# Altium footprint library BMS.PcbLib: 11 footprints
Each footprint in its own frame and in the unit in brackets; x right, y up, seen from the top. Pads: shape width x height; smd on the part's side, far side on the other; paste and mask are expansions set on the pad; w line width, h text height; cw(c..) or ccw(c..) is an arc to the next point about the centre after c.
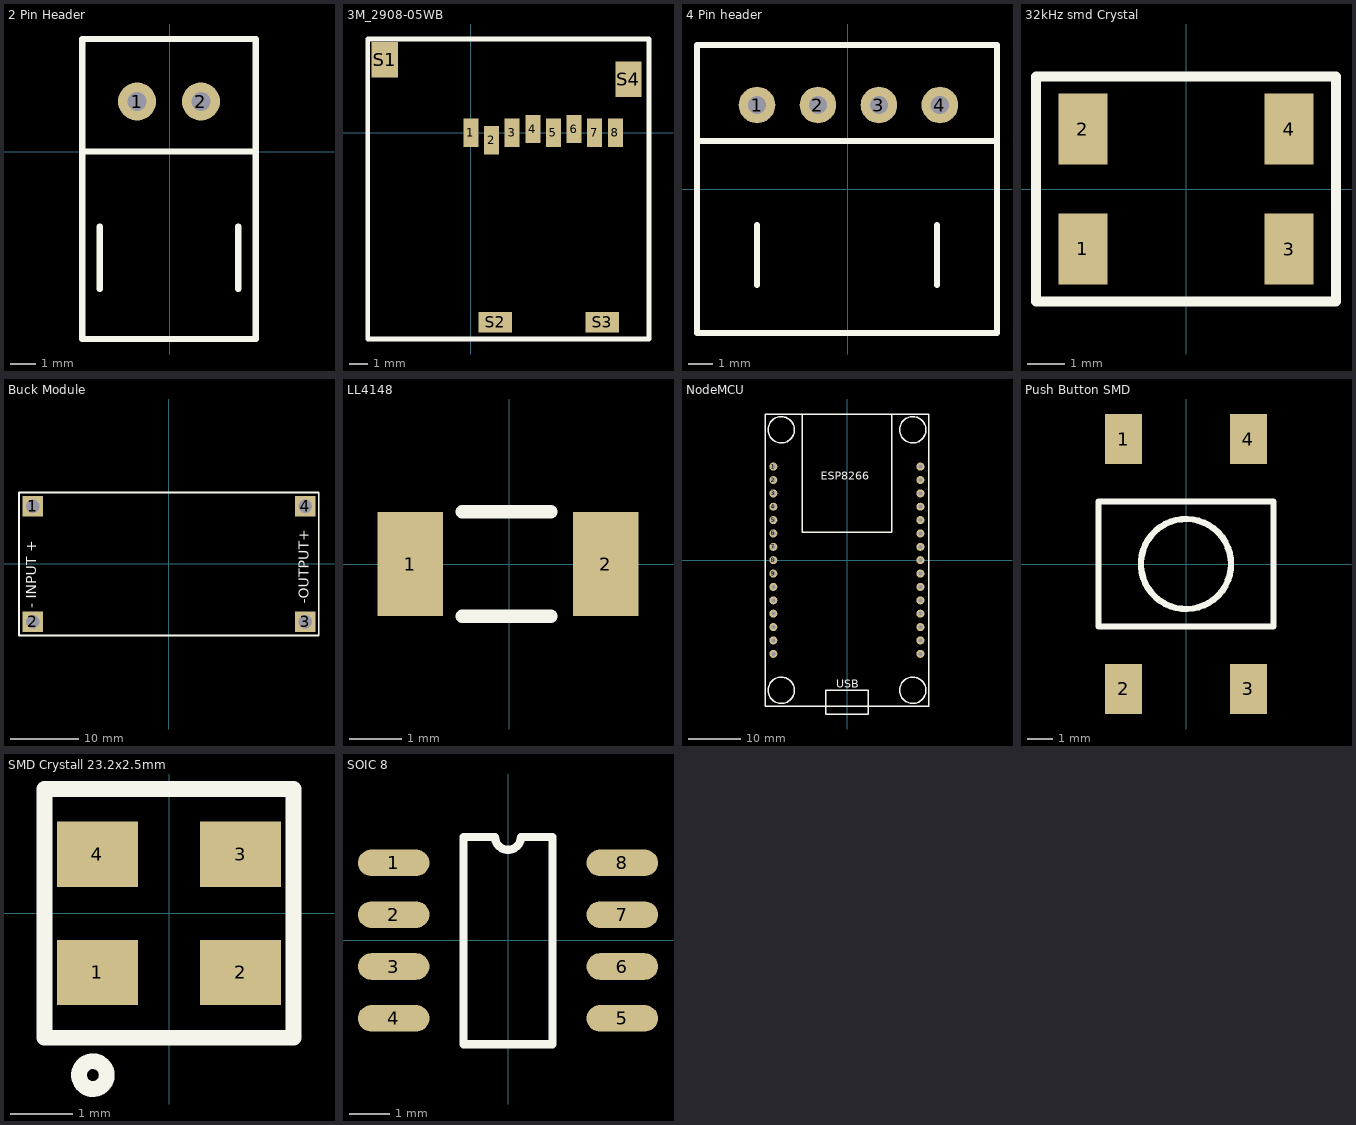
[diagram p0: the footprints below, top view; thin cyan lines are the x and y axes]

## 2 Pin Header [mil]
height 236.22
pads (2):
  round 60 hole 30: 1(-51.18,78.74) 2(49.21,78.74)
Top Overlay:
  lines w10: -137.8,0 133.86,0 ; -110.24,-216.54 -110.24,-118.11 ; 108.27,-216.54 108.27,-118.11 ; 133.86,177.17 -137.8,177.17 -137.8,-295.28 135.83,-295.28 135.83,177.17

## 3M_2908-05WB [mm] "3M_2908-05WB micro sd card connector"
height 2
pads (12):
  rect 0.8x1.5 smd: 1(0,0) 2(1.1,-0.4) 3(2.2,0) 4(3.3,0.2) 5(4.4,0) 6(5.5,0.2) 7(6.6,0) 8(7.7,0)
  rect 1.4x1.9 smd: S1(-4.6,3.9) S4(8.4,2.85)
  rect 1.8x1.1 smd: S2(1.3,-10.1) S3(7,-10.1)
Top Overlay:
  lines w0.254: -5.5,-11 9.5,-11 9.5,5 -5.5,5 -5.5,-11

## 4 Pin header [mil] "For can bus connectors"
height 236.22
pads (4):
  round 60 hole 30: 1(-148.82,137.8) 2(-48.82,137.8) 3(51.18,137.8) 4(151.18,137.8)
Top Overlay:
  lines w10: -247.24,78.74 244.88,78.74 ; -148.82,-157.48 -148.82,-59.06 ; 146.46,-157.48 146.46,-59.06 ; -247.24,-236.22 244.88,-236.22 244.88,236.22 -247.24,236.22 -247.24,-236.22

## 32kHz smd Crystal [mm]
height 2.5
pads (4):
  rect 1.3x1.9 smd: 1(-2.75,-1.6) 2(-2.75,1.6) 3(2.75,-1.6) 4(2.75,1.6)
Top Overlay:
  lines w0.254: -4,-3 4,-3 4,3 -4,3 -4,-3

## Buck Module [mm] "LM2596HVS/LM2596S Buck Converter Module Footprint"
height 14
pads (4):
  rect 3x3 hole 2: 1(-20,8.5) 2(-20,-8.5) 3(20,-8.5) 4(20,8.5)
Top Overlay:
  lines w0.254: -22,-10.5 -22,10.5 22,10.5 22,-10.5 -22,-10.5
  text "-OUTPUT+" at 20.5,-5.8 h1.52
  text "- INPUT +" at -19.5,-6.5 h1.52

## LL4148 [mm] "SMD 1N4148 Fast Diode"
height 1.8
pads (2):
  rect 1.25x2 smd: 1(-1.9,0) 2(1.85,0)
Top Overlay:
  lines w0.254: -0.9,-1 0.8,-1 ; -0.9,1 0.8,1

## NodeMCU [mil] "LoLin NodeMCU Foot print"
height 393.7
pads (30):
  round 60 hole 30: 1(-551.18,700) 2(-551.18,600) 3(-551.18,500) 4(-551.18,400) 5(-551.18,300) 6(-551.18,200) 7(-551.18,100) 8(-551.18,0) 9(-551.18,-100) 10(-551.18,-200) 11(-551.18,-300) 12(-551.18,-400) 13(-551.18,-500) 14(-551.18,-600) 15(-551.18,-700) 16(548.82,-700) 17(548.82,-600) 18(548.82,-500) 19(548.82,-400) 20(548.82,-300) 21(548.82,-200) 22(548.82,-100) 23(548.82,0) 24(548.82,100) 25(548.82,200) 26(548.82,300) 27(548.82,400) 28(548.82,500) 29(548.82,600) 30(548.82,700)
Top Overlay:
  circle w10: c492.13,975.59 r98.43
  circle w10: c-492.13,975.59 r98.43
  circle w10: c492.13,-973.23 r98.43
  circle w10: c-492.13,-973.23 r98.43
  lines w10: -334.65,1093.7 -334.65,207.87 334.65,207.87 334.65,1093.7 ; -610.24,-1091.34 610.24,-1091.34 610.24,1093.7 -610.24,1093.7 -610.24,-1091.34 ; -157.48,-1150.39 157.48,-1150.39 157.48,-973.23 -157.48,-973.23 -157.48,-1150.39
  text "ESP8266" at -196.85,601.57 h60
  text "USB" at -78.74,-953.54 h60

## PCBComponent_1 [mm]

## Push Button SMD [mm] "Push Button SMD Package"
height 4
pads (4):
  rect 1.5x2 smd: 1(-2.5,5) 2(-2.5,-5) 3(2.5,-5) 4(2.5,5)
Top Overlay:
  circle w0.254: c0,0 r1.803
  lines w0.254: -3.5,-2.5 3.5,-2.5 3.5,2.5 -3.5,2.5 -3.5,-2.5

## SMD Crystall 23.2x2.5mm [mm]
height 0.8
pads (4):
  rect 1.3x1.05 smd: 1(-1.15,-0.95) 2(1.15,-0.95) 3(1.15,0.95) 4(-1.15,0.95)
Top Overlay:
  circle w0.254: c-1.224,-2.6 r0.224
  lines w0.254: -2,-2 -2,2 2,2 2,-2 -2,-2

## SOIC 8 [mm] "SOIC 8 foot print"
height 3
pads (8):
  oval 1.75x0.65 smd: 1(-2.8,1.9) 2(-2.8,0.63) 3(-2.8,-0.64) 4(-2.8,-1.91) 5(2.8,-1.91) 6(2.8,-0.64) 7(2.8,0.63) 8(2.8,1.9)
Top Overlay:
  lines w0.2: -1.09,-2.545 -1.09,2.535 -0.318,2.535 ccw(c0,2.535) 0.318,2.535 1.09,2.535 1.09,-2.545 -1.09,-2.545